# EAGLE library part MC14017BDG (library ON Semiconductor_By_element14_Batch_1)
Decade Counter
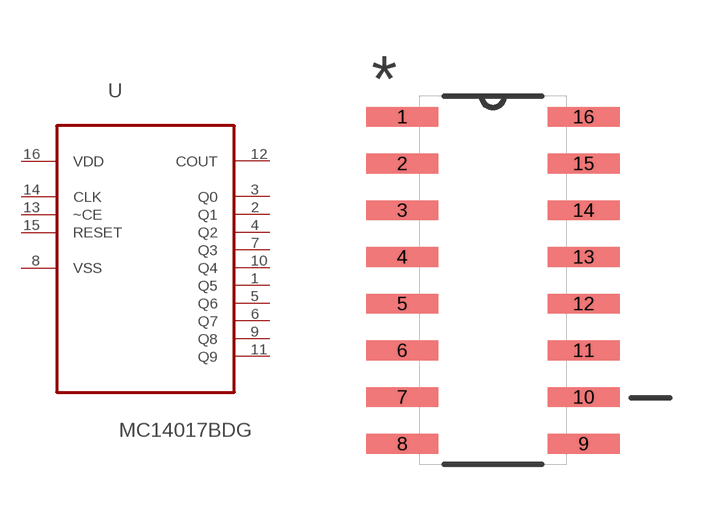
[diagram p209: symbol with the pads of SOIC127P600X175-16N; footprint SOIC127P600X175-16N]

Designator prefix U

## MC14017BDG (MPN: MC14017BDG; OC_FARNELL: 1104712; OC_NEWARK: 42K0508; PACKAGE: SOIC-16; SUPPLIER: ON SEMICONDUCTOR)  [SOIC127P600X175-16N]
1  Q5  out
2  Q1  out
3  Q0  out
4  Q2  out
5  Q6  out
6  Q7  out
7  Q3  out
8  VSS  pas
9  Q8  out
10  Q4  out
11  Q9  out
12  COUT  out
13  ~CE  in
14  CLK  in
15  RESET  in
16  VDD  pwr

## Footprint SOIC127P600X175-16N (pad centres in mm)
smd 1.956 x 0.533: 1 -2.464,4.445; 2 -2.464,3.175; 3 -2.464,1.905; 4 -2.464,0.635; 5 -2.464,-0.635; 6 -2.464,-1.905; 7 -2.464,-3.175; 8 -2.464,-4.445; 9 2.464,-4.445; 10 2.464,-3.175; 11 2.464,-1.905; 12 2.464,-0.635; 13 2.464,0.635; 14 2.464,1.905; 15 2.464,3.175; 16 2.464,4.445